# Altium integrated library GVA-62_.IntLib: 1 symbol
Pins are listed as number, name and electrical type; pins without a type are passive.

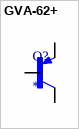
[diagram p0: symbol GVA-62+]

## GVA-62+
designator Q?
RF Amplifier IC CATV, DBS, LTE, MMDS, Wireless LAN 10MHz ~ 6GHz SOT-89; MF: Mini-Circuits; MP: GVA-62+; SnapEDA_Link: https://www.snapeda.com/parts/GVA-62+/Mini-Circuits/view-part/?ref=snap; Package: None; Value: *; Check_prices: https://www.snapeda.com/parts/GVA-62+/Mini-Circuits/view-part/?ref=eda
footprint SOT89R_INFINEON
pins: 1 RF_IN, 2 GND, 3 RF_OUT, 4 GND